# Altium schematic symbol library F930J107MAA.SchLib: 1 symbol
Pins are listed as number, name and electrical type; pins without a type are passive.

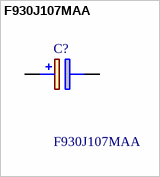
[diagram p0: symbol F930J107MAA]

## F930J107MAA
designator C?
Cap Tant Solid 100uF 6.3V A CASE 20% (3.2 X 1.6 X 1.6mm) Inward L SMD 3216-18 2 Ohm 125C T/R; Manufacturer_Name: Kyocera AVX; Geometry.Height: 1.8mm; Mouser Part Number: 647-F930J107MAA; Mouser Price/Stock: https://www.mouser.co.uk/ProductDetail/KYOCERA-AVX/F930J107MAA?qs=a5AWWN0nKwYK75mlwZMETQ%3D%3D; Manufacturer_Part_Number: F930J107MAA; Datasheet Link: https://datasheets.kyocera-avx.com/F93.pdf
footprint CAPPM3216X180N
pins: 1 +, 2 -